# Altium footprint library pixel.PcbLib: 6 footprints
Each footprint in its own frame and in the unit in brackets; x right, y up, seen from the top. Pads: shape width x height; smd on the part's side, far side on the other; paste and mask are expansions set on the pad; w line width, h text height; cw(c..) or ccw(c..) is an arc to the next point about the centre after c.
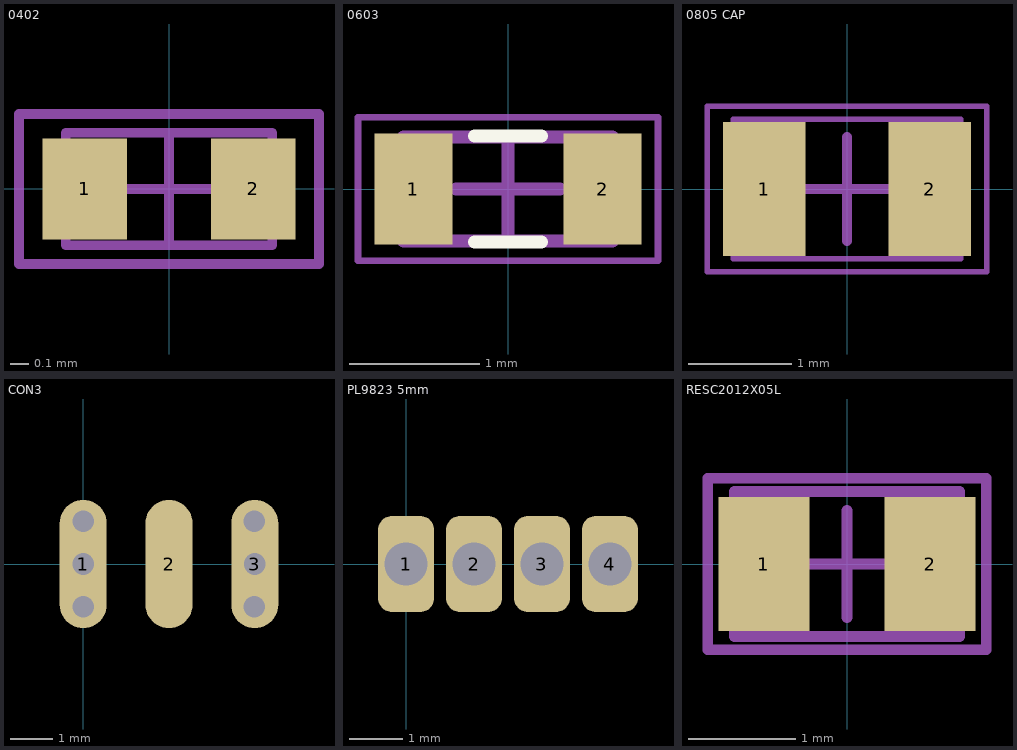
[diagram p0: the footprints below, top view; thin cyan lines are the x and y axes]

## 0402 [mm] "2-Leads, Body 1.00x0.50mm, IPC High Density"
height 0.5
pads (2):
  rrect1% 0.45x0.54 smd: 1(-0.45,0) 2(0.45,0)
Mechanical 13:
  lines w0.051: -0.55,-0.3 0.55,-0.3 0.55,0.3 -0.55,0.3 -0.55,-0.3
Mechanical 15:
  lines w0.051: -0.3,0 0.3,0 ; 0,-0.3 0,0.3 ; -0.8,-0.4 0.8,-0.4 0.8,0.4 -0.8,0.4 -0.8,-0.4
3D body "CAP 0402.step": height 0.5, standoff 0, extent -0.55,-0.3 0.55,0.3

## 0603 [mm] "Chip Capacitor 0603"
height 0.8
pads (2):
  rrect1% 0.6x0.85 smd: 1(-0.725,0) 2(0.725,0)
Top Overlay:
  lines w0.102: -0.254,-0.406 0.254,-0.406 ; -0.254,0.406 0.254,0.406
Mechanical 13:
  lines w0.1: -0.8,-0.4 0.8,-0.4 0.8,0.4 -0.8,0.4 -0.8,-0.4
Mechanical 15:
  lines w0.05: -1.15,-0.55 1.15,-0.55 1.15,0.55 -1.15,0.55 -1.15,-0.55
  lines w0.1: -0.4,0 0.4,0 ; 0,-0.4 0,0.4
3D body "CAPC_0603_1608X08L.step": height 0.8, standoff 0, extent -0.8,-0.4 0.8,0.4

## 0805 CAP [mm] "Chip Capacitor, 2-Leads, Body 2.00x1.25mm, IPC High Density"
height 0.5
pads (2):
  rrect1% 0.8x1.3 smd: 1(-0.8,0) 2(0.8,0)
Mechanical 13:
  lines w0.051: -1.1,-0.675 1.1,-0.675 1.1,0.675 -1.1,0.675 -1.1,-0.675
Mechanical 15:
  lines w0.051: -1.35,-0.8 1.35,-0.8 1.35,0.8 -1.35,0.8 -1.35,-0.8
  lines w0.1: -0.5,0 0.5,0 ; 0,-0.5 0,0.5
3D body "0805 CAP.step": height 0.5, standoff 0, extent -1.1,-0.675 1.1,0.675

## CON3 [mm]
pads (3):
  rrect100% 1.1x3 smd paste+0 mask+0: 1(0,0) 2(2.005,0) 3(4.01,0)
via 4,-1 diameter 0.762 hole 0.508
via 4,1 diameter 0.762 hole 0.508
via 0,-1 diameter 0.762 hole 0.508
via 0,1 diameter 0.762 hole 0.508
via 4.01,0 diameter 0.762 hole 0.508
via 0,0 diameter 0.762 hole 0.508

## PL9823 5mm [mm]
pads (4):
  rrect50% 1.05x1.8 hole 0.8 paste+0 mask+0: 1(0,0) 2(1.27,0) 3(2.54,0) 4(3.81,0)

## RESC2012X05L [mm] "Chip Resistor, 2-Leads, Body 2.00x1.25mm, IPC High Density"
height 0.5
pads (2):
  rrect1% 0.85x1.25 smd: 1(-0.775,0) 2(0.775,0)
Mechanical 13:
  lines w0.102: -1.05,-0.675 -1.05,0.675 1.05,0.675 1.05,-0.675 -1.05,-0.675
Mechanical 15:
  lines w0.1: -0.5,0 0.5,0 ; 0,-0.5 0,0.5
  lines w0.102: -1.3,-0.8 -1.3,0.8 1.3,0.8 1.3,-0.8 -1.3,-0.8
3D body "RESC2012X05L.step": height 0.5, standoff 0, extent -1.05,-0.675 1.05,0.675